# Altium footprint library LT3042EMSETRPBF.PcbLib: 3 footprints
Each footprint in its own frame and in the unit in brackets; x right, y up, seen from the top. Pads: shape width x height; smd on the part's side, far side on the other; paste and mask are expansions set on the pad; w line width, h text height; cw(c..) or ccw(c..) is an arc to the next point about the centre after c.
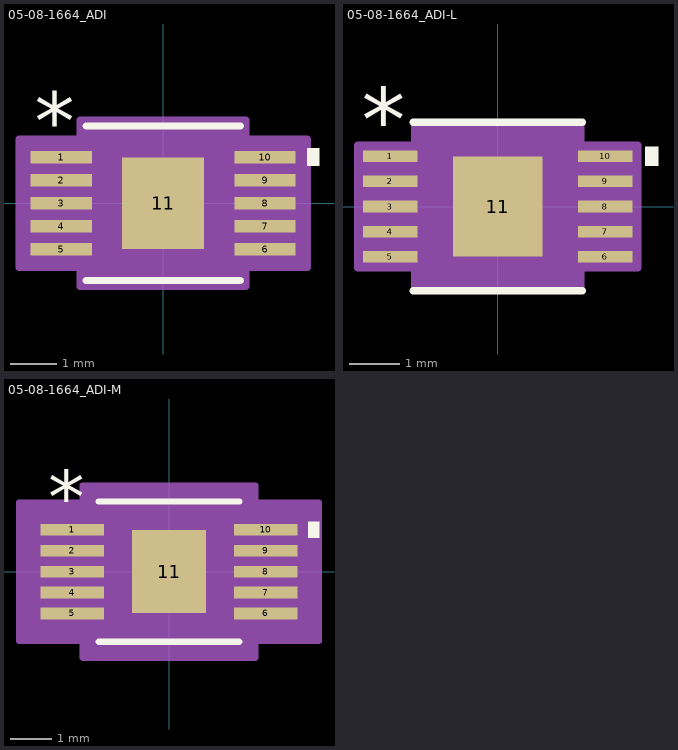
[diagram p0: the footprints below, top view; thin cyan lines are the x and y axes]

## 05-08-1664_ADI [mil]
pads (11):
  rect 52.28x11 smd paste+0 mask+0: 1(-87.14,39.37) 2(-87.14,19.68) 3(-87.14,0) 4(-87.14,-19.68) 5(-87.14,-39.37) 6(87.14,-39.37) 7(87.14,-19.68) 8(87.14,0) 9(87.14,19.68) 10(87.14,39.37)
  rect 70x78 smd paste+0 mask+0: 11(0,0)
Top Overlay:
  region: 123.28,46.87 133.28,46.87 133.28,31.87 123.28,31.87
  lines w6: -66,-66 66,-66 ; -66,66 66,66
  text ".Designator" at -137.5,-25 h50
  text "*" at -109.64,45.37 h50
Mechanical 13:
  lines w1: -12,61 ccw(c0,61) 12,61 ; -99.5,-44.87 -99.5,-33.87 -61,-33.87 -61,-44.87 -99.5,-44.87 ; -99.5,-25.18 -99.5,-14.19 -61,-14.19 -61,-25.18 -99.5,-25.18 ; -99.5,-5.5 -99.5,5.5 -61,5.5 -61,-5.5 -99.5,-5.5 ; -99.5,14.19 -99.5,25.18 -61,25.18 -61,14.19 -99.5,14.19 ; -99.5,33.87 -99.5,44.87 -61,44.87 -61,33.87 -99.5,33.87 ; -61,-61 61,-61 61,61 -61,61 -61,-61 ; 61,-44.87 61,-33.87 99.5,-33.87 99.5,-44.87 61,-44.87 ; 61,-25.18 61,-14.19 99.5,-14.19 99.5,-25.18 61,-25.18 ; 61,-5.5 61,5.5 99.5,5.5 99.5,-5.5 61,-5.5 ; 61,14.19 61,25.18 99.5,25.18 99.5,14.19 61,14.19 ; 61,33.87 61,44.87 99.5,44.87 99.5,33.87 61,33.87
  text "*" at -58.5,8 h50
  text ".Designator" at -137.5,-25 h50
Mechanical 15:
  region: -71,-54.87 -123.28,-54.87 -123.28,54.87 -71,54.87 -71,71 71,71 71,54.87 123.28,54.87 123.28,-54.87 71,-54.87 71,-71 -71,-71
  lines w6: -123.28,-54.87 -123.28,54.87 -71,54.87 -71,71 71,71 71,54.87 123.28,54.87 123.28,-54.87 71,-54.87 71,-71 -71,-71 -71,-54.87 -123.28,-54.87
3D body "05-08-1664_ADI.step": height 43.11, standoff 0, extent -99.49,-60.98 99.49,60.98

## 05-08-1664_ADI-L [mm]
pads (11):
  rect 1.086x0.229 smd paste+0 mask+0: 1(-2.134,1) 2(-2.134,0.5) 3(-2.134,0) 4(-2.134,-0.5) 5(-2.134,-1) 6(2.134,-1) 7(2.134,-0.5) 8(2.134,0) 9(2.134,0.5) 10(2.134,1)
  rect 1.778x1.981 smd paste+0 mask+0: 11(0,0)
Top Overlay:
  region: 2.931,1.191 3.185,1.191 3.185,0.81 2.931,0.81
  lines w0.152: -1.676,-1.676 1.676,-1.676 ; -1.676,1.676 1.676,1.676
  text ".Designator" at -3.492,-0.635 h1.27
  text "*" at -2.706,1.102 h1.27
Mechanical 13:
  lines w0.025: -0.305,1.549 ccw(c0,1.549) 0.305,1.549 ; -2.527,-1.14 -2.527,-0.86 -1.549,-0.86 -1.549,-1.14 -2.527,-1.14 ; -2.527,-0.64 -2.527,-0.36 -1.549,-0.36 -1.549,-0.64 -2.527,-0.64 ; -2.527,-0.14 -2.527,0.14 -1.549,0.14 -1.549,-0.14 -2.527,-0.14 ; -2.527,0.36 -2.527,0.64 -1.549,0.64 -1.549,0.36 -2.527,0.36 ; -2.527,0.86 -2.527,1.14 -1.549,1.14 -1.549,0.86 -2.527,0.86 ; -1.549,-1.549 1.549,-1.549 1.549,1.549 -1.549,1.549 -1.549,-1.549 ; 1.549,-1.14 1.549,-0.86 2.527,-0.86 2.527,-1.14 1.549,-1.14 ; 1.549,-0.64 1.549,-0.36 2.527,-0.36 2.527,-0.64 1.549,-0.64 ; 1.549,-0.14 1.549,0.14 2.527,0.14 2.527,-0.14 1.549,-0.14 ; 1.549,0.36 1.549,0.64 2.527,0.64 2.527,0.36 1.549,0.36 ; 1.549,0.86 1.549,1.14 2.527,1.14 2.527,0.86 1.549,0.86
  text "*" at -1.486,0.203 h1.27
  text ".Designator" at -3.492,-0.635 h1.27
Mechanical 15:
  region: -1.651,-1.216 -2.779,-1.216 -2.779,1.216 -1.651,1.216 -1.651,1.651 1.651,1.651 1.651,1.216 2.779,1.216 2.779,-1.216 1.651,-1.216 1.651,-1.651 -1.651,-1.651
  lines w0.152: -2.779,-1.216 -2.779,1.216 -1.651,1.216 -1.651,1.651 1.651,1.651 1.651,1.216 2.779,1.216 2.779,-1.216 1.651,-1.216 1.651,-1.651 -1.651,-1.651 -1.651,-1.216 -2.779,-1.216
3D body "05-08-1664_ADI.step": height 1.09, standoff 0, extent -2.527,-1.549 2.527,1.549

## 05-08-1664_ADI-M [mil]
pads (11):
  rect 60.15x11 smd paste+0 mask+0: 1(-91.08,39.37) 2(-91.08,19.68) 3(-91.08,0) 4(-91.08,-19.68) 5(-91.08,-39.37) 6(91.08,-39.37) 7(91.08,-19.68) 8(91.08,0) 9(91.08,19.68) 10(91.08,39.37)
  rect 70x78 smd paste+0 mask+0: 11(0,0)
Top Overlay:
  region: 131.15,46.87 141.15,46.87 141.15,31.87 131.15,31.87
  lines w6: -66,-66 66,-66 ; -66,66 66,66
  text ".Designator" at -137.5,-25 h50
  text "*" at -113.58,45.37 h50
Mechanical 13:
  lines w1: -12,61 ccw(c0,61) 12,61 ; -99.5,-44.87 -99.5,-33.87 -61,-33.87 -61,-44.87 -99.5,-44.87 ; -99.5,-25.18 -99.5,-14.19 -61,-14.19 -61,-25.18 -99.5,-25.18 ; -99.5,-5.5 -99.5,5.5 -61,5.5 -61,-5.5 -99.5,-5.5 ; -99.5,14.19 -99.5,25.18 -61,25.18 -61,14.19 -99.5,14.19 ; -99.5,33.87 -99.5,44.87 -61,44.87 -61,33.87 -99.5,33.87 ; -61,-61 61,-61 61,61 -61,61 -61,-61 ; 61,-44.87 61,-33.87 99.5,-33.87 99.5,-44.87 61,-44.87 ; 61,-25.18 61,-14.19 99.5,-14.19 99.5,-25.18 61,-25.18 ; 61,-5.5 61,5.5 99.5,5.5 99.5,-5.5 61,-5.5 ; 61,14.19 61,25.18 99.5,25.18 99.5,14.19 61,14.19 ; 61,33.87 61,44.87 99.5,44.87 99.5,33.87 61,33.87
  text "*" at -58.5,8 h50
  text ".Designator" at -137.5,-25 h50
Mechanical 15:
  region: -81,-64.87 -141.15,-64.87 -141.15,64.87 -81,64.87 -81,81 81,81 81,64.87 141.15,64.87 141.15,-64.87 81,-64.87 81,-81 -81,-81
  lines w6: -141.15,-64.87 -141.15,64.87 -81,64.87 -81,81 81,81 81,64.87 141.15,64.87 141.15,-64.87 81,-64.87 81,-81 -81,-81 -81,-64.87 -141.15,-64.87
3D body "05-08-1664_ADI.step": height 43.11, standoff 0, extent -99.49,-60.98 99.49,60.98